# EAGLE library part XC2S30-IOB1 (library parts)
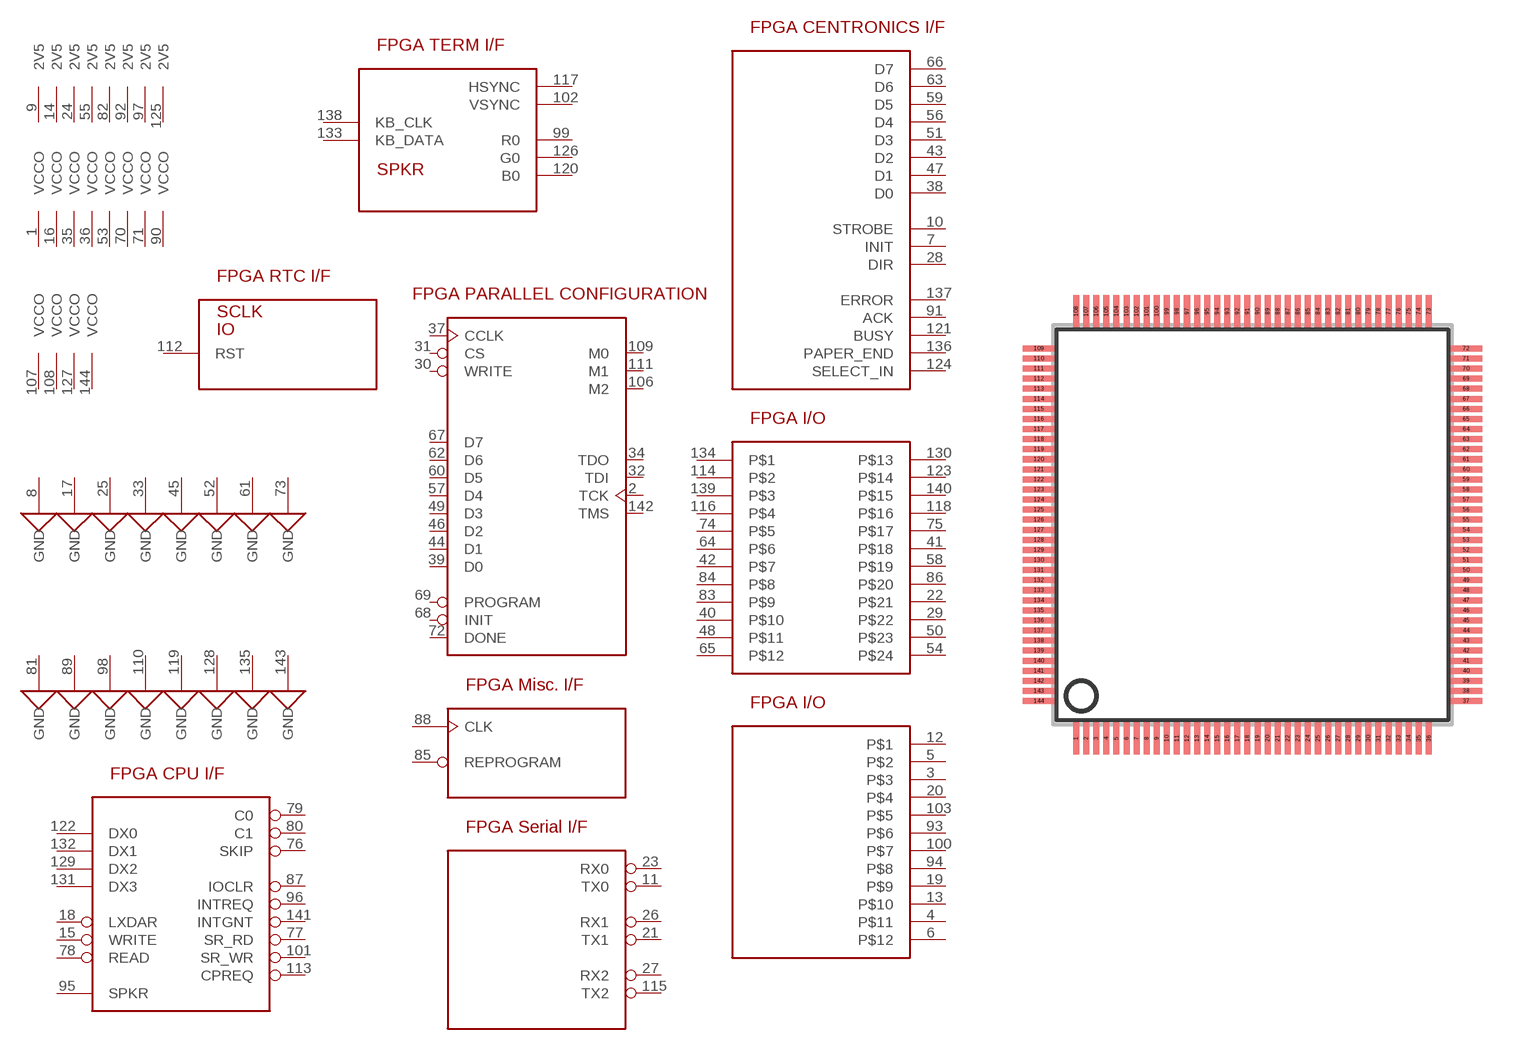
[diagram p5: symbol with the pads of TQFP144; footprint TQFP144]

Designator prefix IC; gates G$1=XC2S-CFGPARL G$2=2V5 G$3=2V5 G$4=2V5 G$5=2V5 G$6=2V5 G$7=2V5 G$8=2V5 G$9=2V5 G$10=VCCO G$11=VCCO G$12=VCCO G$13=VCCO G$14=VCCO G$15=VCCO G$16=VCCO G$17=VCCO G$18=VCCO G$19=VCCO G$20=VCCO G$21=VCCO G$22=XC2S-IOB1-IO2 G$23=XC2S-IOB1-MISC G$24=XC2S-IOB1-LPT G$25=XC2S-IOB1-IO G$26=GND G$27=GND G$28=GND G$29=GND G$30=GND G$31=GND G$32=GND G$33=GND G$34=GND G$35=GND G$36=GND G$37=GND G$38=GND G$39=GND G$40=GND G$41=GND G$42=XC2S-IOB1-TERM G$43=XC2S-IOB1-SERIAL G$44=XC2S-IOB1-CPU G$45=XC2S-IOB1-RTC

## XC2S30-IOB1-5TQ144  [TQFP144]
1  G$10:VCCO  pwr
2  G$1:TCK  in
3  G$22:P$3  hiz
4  G$22:P$11  hiz
5  G$22:P$2  hiz
6  G$22:P$12  hiz
7  G$24:INIT  out
8  G$26:GND  pwr
9  G$2:2V5  pwr
10  G$24:STROBE  out
11  G$43:TX0  out
12  G$22:P$1  hiz
13  G$22:P$10  hiz
14  G$3:2V5  pwr
15  G$44:WRITE  in
16  G$11:VCCO  pwr
17  G$27:GND  pwr
18  G$44:LXDAR  in
19  G$22:P$9  hiz
20  G$22:P$4  hiz
21  G$43:TX1  out
22  G$25:P$21  hiz
23  G$43:RX0  in
24  G$4:2V5  pwr
25  G$28:GND  pwr
26  G$43:RX1  in
27  G$43:RX2  in
28  G$24:DIR  out
29  G$25:P$22  hiz
30  G$1:WRITE  in
31  G$1:CS  in
32  G$1:TDI  in
33  G$29:GND  pwr
34  G$1:TDO  out
35  G$12:VCCO  pwr
36  G$13:VCCO  pwr
37  G$1:CCLK  in
38  G$24:D0
39  G$1:D0  hiz
40  G$25:P$10  hiz
41  G$25:P$18  hiz
42  G$25:P$7  hiz
43  G$24:D2
44  G$1:D1  hiz
45  G$30:GND  pwr
46  G$1:D2  hiz
47  G$24:D1
48  G$25:P$11  hiz
49  G$1:D3  hiz
50  G$25:P$23  hiz
51  G$24:D3
52  G$31:GND  pwr
53  G$14:VCCO  pwr
54  G$25:P$24  hiz
55  G$5:2V5  pwr
56  G$24:D4
57  G$1:D4  hiz
58  G$25:P$19  hiz
59  G$24:D5
60  G$1:D5  hiz
61  G$32:GND  pwr
62  G$1:D6  hiz
63  G$24:D6
64  G$25:P$6  hiz
65  G$25:P$12  hiz
66  G$24:D7
67  G$1:D7  hiz
68  G$1:INIT  oc
69  G$1:PROGRAM  in
70  G$15:VCCO  pwr
71  G$16:VCCO  pwr
72  G$1:DONE  out
73  G$33:GND  pwr
74  G$25:P$5  hiz
75  G$25:P$17  hiz
76  G$44:SKIP  hiz
77  G$44:SR_RD
78  G$44:READ  in
79  G$44:C0  hiz
80  G$44:C1  hiz
81  G$34:GND  pwr
82  G$6:2V5  pwr
83  G$25:P$9  hiz
84  G$25:P$8  hiz
85  G$23:REPROGRAM  oc
86  G$25:P$20  hiz
87  G$44:IOCLR  in
88  G$23:CLK  in
89  G$35:GND  pwr
90  G$17:VCCO  pwr
91  G$24:ACK  in
92  G$7:2V5  pwr
93  G$22:P$6  hiz
94  G$22:P$8  hiz
95  G$44:SPKR  out
96  G$44:INTREQ  hiz
97  G$8:2V5  pwr
98  G$36:GND  pwr
99  G$42:R0  out
100  G$22:P$7  hiz
101  G$44:SR_WR
102  G$42:VSYNC  out
103  G$22:P$5  hiz
106  G$1:M2  in
107  G$18:VCCO  pwr
108  G$19:VCCO  pwr
109  G$1:M0  in
110  G$37:GND  pwr
111  G$1:M1  in
112  G$45:RST  out
113  G$44:CPREQ  hiz
114  G$25:P$2  hiz
115  G$43:TX2  out
116  G$25:P$4  hiz
117  G$42:HSYNC  out
118  G$25:P$16  hiz
119  G$38:GND  pwr
120  G$42:B0  out
121  G$24:BUSY  in
122  G$44:DX0
123  G$25:P$14  hiz
124  G$24:SELECT_IN  in
125  G$9:2V5  pwr
126  G$42:G0  out
127  G$20:VCCO  pwr
128  G$39:GND  pwr
129  G$44:DX2
130  G$25:P$13  hiz
131  G$44:DX3
132  G$44:DX1
133  G$42:KB_DATA
134  G$25:P$1  hiz
135  G$40:GND  pwr
136  G$24:PAPER_END  in
137  G$24:ERROR  in
138  G$42:KB_CLK
139  G$25:P$3  hiz
140  G$25:P$15  hiz
141  G$44:INTGNT  in
142  G$1:TMS  in
143  G$41:GND  pwr
144  G$21:VCCO  pwr

## Footprint TQFP144 (pad centres in mm)
smd 0.3 x 1.6: 1 -8.75,-10.6; 2 -8.25,-10.6; 3 -7.75,-10.6; 4 -7.25,-10.6; 5 -6.75,-10.6; 6 -6.25,-10.6; 7 -5.75,-10.6; 8 -5.25,-10.6; 9 -4.75,-10.6; 10 -4.25,-10.6; 11 -3.75,-10.6; 12 -3.25,-10.6; 13 -2.75,-10.6; 14 -2.25,-10.6; 15 -1.75,-10.6; 16 -1.25,-10.6; 17 -0.75,-10.6; 18 -0.25,-10.6; 19 0.25,-10.6; 20 0.75,-10.6; 21 1.25,-10.6; 22 1.75,-10.6; 23 2.25,-10.6; 24 2.75,-10.6; 25 3.25,-10.6; 26 3.75,-10.6; 27 4.25,-10.6; 28 4.75,-10.6; 29 5.25,-10.6; 30 5.75,-10.6; 31 6.25,-10.6; 32 6.75,-10.6; 33 7.25,-10.6; 34 7.75,-10.6; 35 8.25,-10.6; 36 8.75,-10.6; 73 8.75,10.6; 74 8.25,10.6; 75 7.75,10.6; 76 7.25,10.6; 77 6.75,10.6; 78 6.25,10.6; 79 5.75,10.6; 80 5.25,10.6; 81 4.75,10.6; 82 4.25,10.6; 83 3.75,10.6; 84 3.25,10.6; 85 2.75,10.6; 86 2.25,10.6; 87 1.75,10.6; 88 1.25,10.6; 89 0.75,10.6; 90 0.25,10.6; 91 -0.25,10.6; 92 -0.75,10.6; 93 -1.25,10.6; 94 -1.75,10.6; 95 -2.25,10.6; 96 -2.75,10.6; 97 -3.25,10.6; 98 -3.75,10.6; 99 -4.25,10.6; 100 -4.75,10.6; 101 -5.25,10.6; 102 -5.75,10.6; 103 -6.25,10.6; 104 -6.75,10.6; 105 -7.25,10.6; 106 -7.75,10.6; 107 -8.25,10.6; 108 -8.75,10.6
smd 1.6 x 0.3: 37 10.6,-8.75; 38 10.6,-8.25; 39 10.6,-7.75; 40 10.6,-7.25; 41 10.6,-6.75; 42 10.6,-6.25; 43 10.6,-5.75; 44 10.6,-5.25; 45 10.6,-4.75; 46 10.6,-4.25; 47 10.6,-3.75; 48 10.6,-3.25; 49 10.6,-2.75; 50 10.6,-2.25; 51 10.6,-1.75; 52 10.6,-1.25; 53 10.6,-0.75; 54 10.6,-0.25; 55 10.6,0.25; 56 10.6,0.75; 57 10.6,1.25; 58 10.6,1.75; 59 10.6,2.25; 60 10.6,2.75; 61 10.6,3.25; 62 10.6,3.75; 63 10.6,4.25; 64 10.6,4.75; 65 10.6,5.25; 66 10.6,5.75; 67 10.6,6.25; 68 10.6,6.75; 69 10.6,7.25; 70 10.6,7.75; 71 10.6,8.25; 72 10.6,8.75; 109 -10.6,8.75; 110 -10.6,8.25; 111 -10.6,7.75; 112 -10.6,7.25; 113 -10.6,6.75; 114 -10.6,6.25; 115 -10.6,5.75; 116 -10.6,5.25; 117 -10.6,4.75; 118 -10.6,4.25; 119 -10.6,3.75; 120 -10.6,3.25; 121 -10.6,2.75; 122 -10.6,2.25; 123 -10.6,1.75; 124 -10.6,1.25; 125 -10.6,0.75; 126 -10.6,0.25; 127 -10.6,-0.25; 128 -10.6,-0.75; 129 -10.6,-1.25; 130 -10.6,-1.75; 131 -10.6,-2.25; 132 -10.6,-2.75; 133 -10.6,-3.25; 134 -10.6,-3.75; 135 -10.6,-4.25; 136 -10.6,-4.75; 137 -10.6,-5.25; 138 -10.6,-5.75; 139 -10.6,-6.25; 140 -10.6,-6.75; 141 -10.6,-7.25; 142 -10.6,-7.75; 143 -10.6,-8.25; 144 -10.6,-8.75